# Altium footprint library PCB1.PCBLIB: 35 footprints (part 1 of 3)
Each footprint in its own frame and in the unit in brackets; x right, y up, seen from the top. Pads: shape width x height; smd on the part's side, far side on the other; paste and mask are expansions set on the pad; w line width, h text height; cw(c..) or ccw(c..) is an arc to the next point about the centre after c.
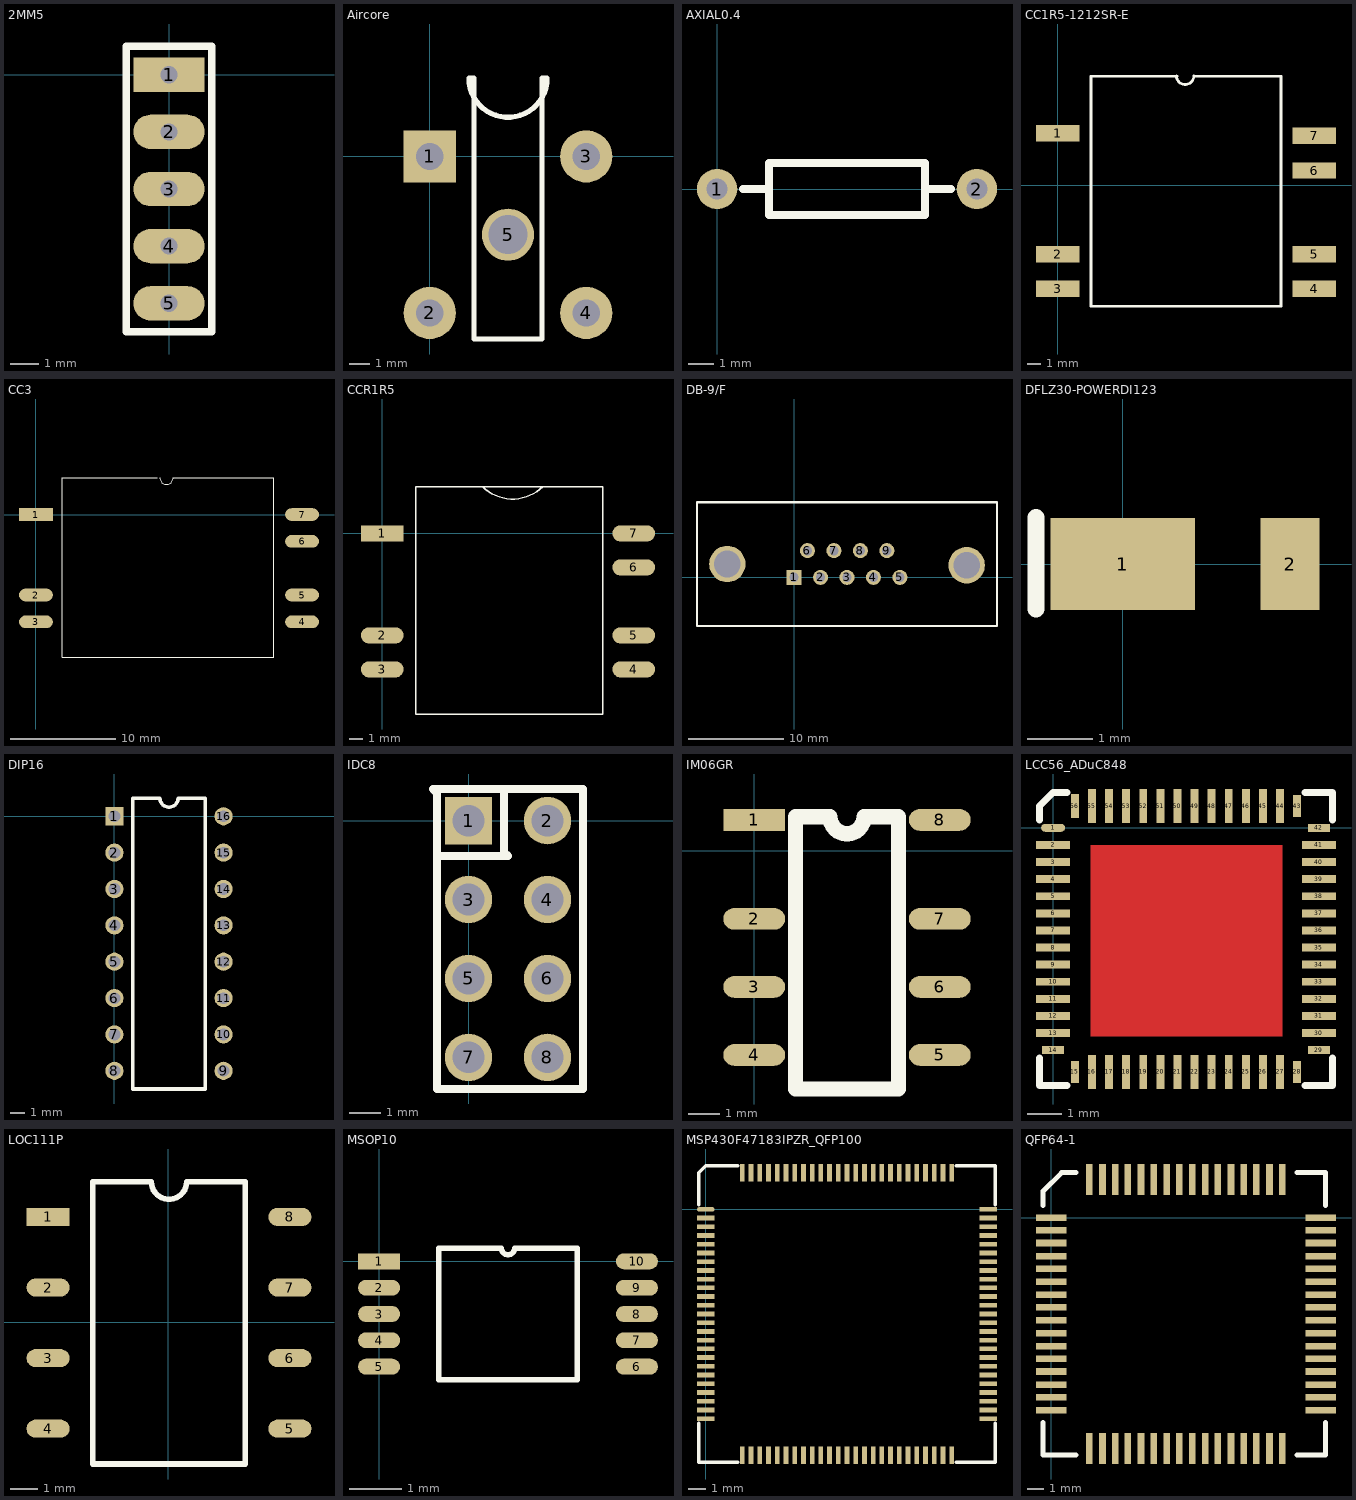
[diagram p0: the footprints below, top view; thin cyan lines are the x and y axes]

## 2MM5 [mm]
pads (5):
  rect 2.5x1.2 hole 0.6: 1(0,0)
  oval 2.5x1.2 hole 0.6: 2(0,-2) 3(0,-4) 4(0,-6) 5(0,-8)
TopOverlay:
  lines w0.254: -1.5,-9 -1.5,1 1.5,1 1.5,-9 -1.5,-9

## Aircore [mil]
pads (5):
  rect 100x100 hole 52: 1(0,0)
  round 100 hole 52: 2(0,-300) 3(300,0) 4(300,-300)
  round 100 hole 75: 5(150,-150)
TopOverlay:
  lines w10: 75,150 ccw(c150,150) 225,150 215,150 215,-350 85,-350 85,150 75,150

## AXIAL0.4 [mil]
pads (2):
  round 62 hole 32: 1(0,0) 2(400,0)
TopOverlay:
  lines w12: 40,0 80,0 ; 320,0 360,0 ; 80,-40 80,40 320,40 320,-40 80,-40

## CC1R5-1212SR-E [mm] "CONV DC/DC 1.5W SNGL 12V 12V SMD"
height 12
pads (7):
  rect 3.2x1.2 smd: 1(0,3.8) 2(0,-5.08) 3(0,-7.62) 4(18.8,-7.62) 5(18.8,-5.08) 6(18.8,1.06) 7(18.8,3.6)
TopOverlay:
  lines w0.2: 8.7,8 ccw(c9.335,8) 9.97,8 ; 8.765,7.97 2.435,7.97 2.435,-8.89 16.365,-8.89 16.365,7.97 10.035,7.97

## CC3 [mm]
pads (7):
  rect 3.2x1.2 smd: 1(0,0)
  oval 3.2x1.2 smd: 2(0,-7.62) 3(0,-10.16) 4(25.2,-10.16) 5(25.2,-7.62) 6(25.2,-2.54) 7(25.2,0)
TopOverlay:
  lines w0.1: 11.5,3.5 2.5,3.5 2.5,-13.5 22.5,-13.5 22.5,3.5 13,3.5 cw(c12.365,3.5) 11.73,3.5

## CCR1R5 [mm]
pads (7):
  rect 3.2x1.2 smd: 1(0,0)
  oval 3.2x1.2 smd: 2(0,-7.62) 3(0,-10.16) 4(18.8,-10.16) 5(18.8,-7.62) 6(18.8,-2.54) 7(18.8,0)
TopOverlay:
  lines w0.1: 7.5,3.5 ccw(c9.75,5.75) 12,3.5 ; 2.5,-13.5 2.5,3.5 16.5,3.5 16.5,-13.5 2.5,-13.5

## DB-9/F [mil]
pads (11):
  rect 62x62 hole 38: 1(0,0)
  round 62 hole 38: 2(109,0) 3(218,0) 4(327,0) 5(436,0) 6(55,110) 7(164,110) 8(273,110) 9(382,110)
  round 150 hole 110: ""(-275,55) ""(711,50)
TopOverlay:
  lines w8: -400,-200 836,-200 836,310
  lines w10: -400,-200 -400,310 836,310

## DFLZ30-POWERDI123 [mm]
pads (2):
  rect 2.2x1.4 smd: 1(0,0)
  rect 0.9x1.4 smd: 2(2.55,0)
TopOverlay:
  lines w0.254: -1.321,-0.686 -1.321,0.711

## DIP16 [mil]
pads (16):
  rect 50x50 hole 32: 1(0,0)
  round 50 hole 32: 2(0,-100) 3(0,-200) 4(0,-300) 5(0,-400) 6(0,-500) 7(0,-600) 8(0,-700) 9(300,-700) 10(300,-600) 11(300,-500) 12(300,-400) 13(300,-300) 14(300,-200) 15(300,-100) 16(300,0)
TopOverlay:
  lines w10: 50,-750 50,50 125,50 ccw(c150,50) 175,50 250,50 250,-750 50,-750

## IDC8 [mil]
pads (8):
  rect 60x60 hole 40: 1(0,0)
  round 60 hole 40: 2(100,0) 3(0,-100) 4(100,-100) 5(0,-200) 6(100,-200) 7(0,-300) 8(100,-300)
TopOverlay:
  lines w10: -40,-45 50,-45 45,-40 45,40 ; -45,40 145,40 145,-340 -40,-340 -40,35 -45,40

## IM06GR [mm] "DPDT TE Relay"
height 5.65
pads (8):
  rect 2x0.7 smd: 1(0,1)
  oval 2x0.7 smd: 2(0,-2.2) 3(0,-4.4) 4(0,-6.6) 5(6,-6.6) 6(6,-4.4) 7(6,-2.2) 8(6,1)
TopOverlay:
  lines w0.5: 1.335,-7.7 4.665,-7.7 4.665,1.1 3.55,1.1 cw(c3,1.1) 2.45,1.1 1.335,1.1 1.335,-7.7

## LCC56_ADuC848 [mm]
height 0.8
pads (56):
  oval 0.7x0.23 smd: 1(0,0)
  rect 1x0.23 smd: 2(0,-0.5) 3(0,-1) 4(0,-1.5) 5(0,-2) 6(0,-2.5) 7(0,-3) 8(0,-3.5) 9(0,-4) 10(0,-4.5) 11(0,-5) 12(0,-5.5) 13(0,-6) 30(7.77,-6) 31(7.77,-5.5) 32(7.77,-5) 33(7.77,-4.5) 34(7.77,-4) 35(7.77,-3.5) 36(7.77,-3) 37(7.77,-2.5) 38(7.77,-2) 39(7.77,-1.5) 40(7.77,-1) 41(7.77,-0.5)
  rect 0.65x0.23 smd: 14(0,-6.5) 29(7.77,-6.5) 42(7.77,0)
  rect 0.23x0.65 smd: 15(0.635,-7.135) 28(7.135,-7.135) 43(7.135,0.635)
  rect 0.23x1 smd: 16(1.135,-7.135) 17(1.635,-7.135) 18(2.135,-7.135) 19(2.635,-7.135) 20(3.135,-7.135) 21(3.635,-7.135) 22(4.135,-7.135) 23(4.635,-7.135) 24(5.135,-7.135) 25(5.635,-7.135) 26(6.135,-7.135) 27(6.635,-7.135) 44(6.635,0.635) 45(6.135,0.635) 46(5.635,0.635) 47(5.135,0.635) 48(4.635,0.635) 49(4.135,0.635) 50(3.635,0.635) 51(3.135,0.635) 52(2.635,0.635) 53(2.135,0.635) 54(1.635,0.635) 55(1.135,0.635)
  rect 0.23x0.7 smd: 56(0.635,0.635)
TopLayer:
  rectangle: 1.1,-6.1 6.7,-0.5
TopOverlay:
  lines w0.2: -0.4,-6.73 -0.4,-7.535 0.405,-7.535 ; -0.4,0.23 -0.4,0.635 0,1.035 0.405,1.035 ; 7.365,-7.535 8.17,-7.535 8.17,-6.73 ; 7.365,1.035 8.17,1.035 8.17,0.23

## LOC111P [mm] "Linear Optocoupler"
pads (8):
  rect 1.55x0.65 smd: 1(-4.332,3.786)
  oval 1.55x0.65 smd: 2(-4.332,1.246) 3(-4.332,-1.294) 4(-4.332,-3.834) 5(4.368,-3.834) 6(4.368,-1.294) 7(4.368,1.246) 8(4.368,3.786)
TopOverlay:
  lines w0.2: -2.722,-5.104 -2.722,5.056 -0.617,5.056 ccw(c0.018,5.056) 0.653,5.056 2.758,5.056 2.758,-5.104 -2.722,-5.104

## MSOP10 [mm]
pads (10):
  rect 0.8x0.3 smd: 1(0,0)
  oval 0.8x0.3 smd: 2(0,-0.5) 3(0,-1) 4(0,-1.5) 5(0,-2) 6(4.9,-2) 7(4.9,-1.5) 8(4.9,-1) 9(4.9,-0.5) 10(4.9,0)
TopOverlay:
  lines w0.1: 1.135,-2.25 1.135,0.25 2.325,0.25 ccw(c2.45,0.25) 2.575,0.25 3.765,0.25 3.765,-2.25 1.135,-2.25

## MSP430F47183IPZR_QFP100 [mm] "MSP430F47183IPZR"
height 1.45
pads (100):
  oval 1x0.27 smd: 1(0,0)
  rect 1x0.27 smd: 2(0,-0.5) 3(0,-1) 4(0,-1.5) 5(0,-2) 6(0,-2.5) 7(0,-3) 8(0,-3.5) 9(0,-4) 10(0,-4.5) 11(0,-5) 12(0,-5.5) 13(0,-6) 14(0,-6.5) 15(0,-7) 16(0,-7.5) 17(0,-8) 18(0,-8.5) 19(0,-9) 20(0,-9.5) 21(0,-10) 22(0,-10.5) 23(0,-11) 24(0,-11.5) 25(0,-12) 51(16.2,-12) 52(16.2,-11.5) 53(16.2,-11) 54(16.2,-10.5) 55(16.2,-10) 56(16.2,-9.5) 57(16.2,-9) 58(16.2,-8.5) 59(16.2,-8) 60(16.2,-7.5) 61(16.2,-7) 62(16.2,-6.5) 63(16.2,-6) 64(16.2,-5.5) 65(16.2,-5) 66(16.2,-4.5) 67(16.2,-4) 68(16.2,-3.5) 69(16.2,-3) 70(16.2,-2.5) 71(16.2,-2) 72(16.2,-1.5) 73(16.2,-1) 74(16.2,-0.5) 75(16.2,0)
  rect 0.27x1 smd: 26(2.1,-14.1) 27(2.6,-14.1) 28(3.1,-14.1) 29(3.6,-14.1) 30(4.1,-14.1) 31(4.6,-14.1) 32(5.1,-14.1) 33(5.6,-14.1) 34(6.1,-14.1) 35(6.6,-14.1) 36(7.1,-14.1) 37(7.6,-14.1) 38(8.1,-14.1) 39(8.6,-14.1) 40(9.1,-14.1) 41(9.6,-14.1) 42(10.1,-14.1) 43(10.6,-14.1) 44(11.1,-14.1) 45(11.6,-14.1) 46(12.1,-14.1) 47(12.6,-14.1) 48(13.1,-14.1) 49(13.6,-14.1) 50(14.1,-14.1) 76(14.1,2.1) 77(13.6,2.1) 78(13.1,2.1) 79(12.6,2.1) 80(12.1,2.1) 81(11.6,2.1) 82(11.1,2.1) 83(10.6,2.1) 84(10.1,2.1) 85(9.6,2.1) 86(9.1,2.1) 87(8.6,2.1) 88(8.1,2.1) 89(7.6,2.1) 90(7.1,2.1) 91(6.6,2.1) 92(6.1,2.1) 93(5.6,2.1) 94(5.1,2.1) 95(4.6,2.1) 96(4.1,2.1) 97(3.6,2.1) 98(3.1,2.1) 99(2.6,2.1) 100(2.1,2.1)
TopOverlay:
  lines w0.2: -0.4,-12.27 -0.4,-14.5 1.83,-14.5 ; -0.4,0.27 -0.4,2.1 0,2.5 1.83,2.5 ; 14.37,-14.5 16.6,-14.5 16.6,-12.27 ; 14.37,2.5 16.6,2.5 16.6,0.27

## QFP64-1 [mil]
pads (64):
  rect 75x16 smd: 1(0,0) 2(0,-31) 3(0,-62) 4(0,-94) 5(0,-125) 6(0,-157) 7(0,-188) 8(0,-219) 9(0,-251) 10(0,-282) 11(0,-314) 12(0,-345) 13(0,-376) 14(0,-408) 15(0,-439) 16(0,-471) 33(658,-471) 34(658,-439) 35(658,-408) 36(658,-376) 37(658,-345) 38(658,-314) 39(658,-282) 40(658,-251) 41(658,-219) 42(658,-188) 43(658,-157) 44(658,-125) 45(658,-94) 46(658,-62) 47(658,-31) 48(658,0)
  rect 16x75 smd: 17(93,-564) 18(125,-564) 19(156,-564) 20(187,-564) 21(219,-564) 22(250,-564) 23(282,-564) 24(313,-564) 25(344,-564) 26(376,-564) 27(407,-564) 28(439,-564) 29(470,-564) 30(501,-564) 31(533,-564) 32(564,-564) 49(564,93) 50(533,93) 51(501,93) 52(470,93) 53(439,93) 54(407,93) 55(376,93) 56(344,93) 57(313,93) 58(282,93) 59(250,93) 60(219,93) 61(187,93) 62(156,93) 63(125,93) 64(93,93)
TopOverlay:
  lines w12: -20,-500 -20,-580 60,-580 ; -20,30 -20,65 25,110 60,110 ; 600,-580 670,-580 670,-500 ; 600,110 670,110 670,30